# EAGLE library part DLM600 (library GPIB_epccs)
Sorensen DLM600 600W half rack 1U PS with lots of options
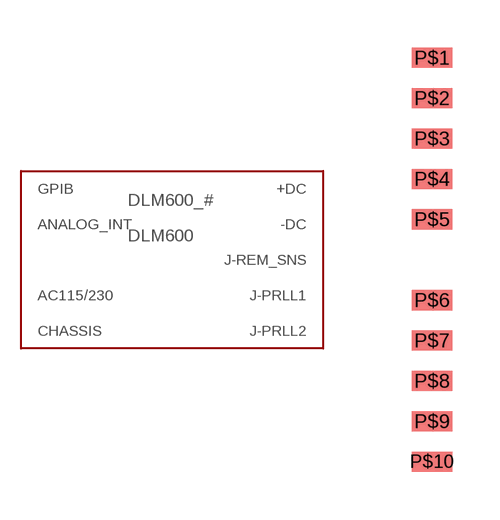
[diagram p1: symbol with the pads of POS10; footprint POS10]

Designator prefix DLM600_#

## DLM600  [POS10]
P$1  +DC
P$2  -DC
P$3  AC115/230
P$4  ANALOG_INT
P$5  CHASSIS
P$6  GPIB
P$7  J-PRLL1
P$8  J-PRLL2
P$9  J-REM_SNS

## Footprint POS10 (pad centres in mm)
10 position
smd 1.27 x 0.635: P$1 0,6.35; P$2 0,5.08; P$3 0,3.81; P$4 0,2.54; P$5 0,1.27; P$6 0,-1.27; P$7 0,-2.54; P$8 0,-3.81; P$9 0,-5.08; P$10 0,-6.35